# Altium schematic symbol library sensor_accel-gyro-compass.SchLib: 38 symbols
Pins are listed as number, name and electrical type; pins without a type are passive.

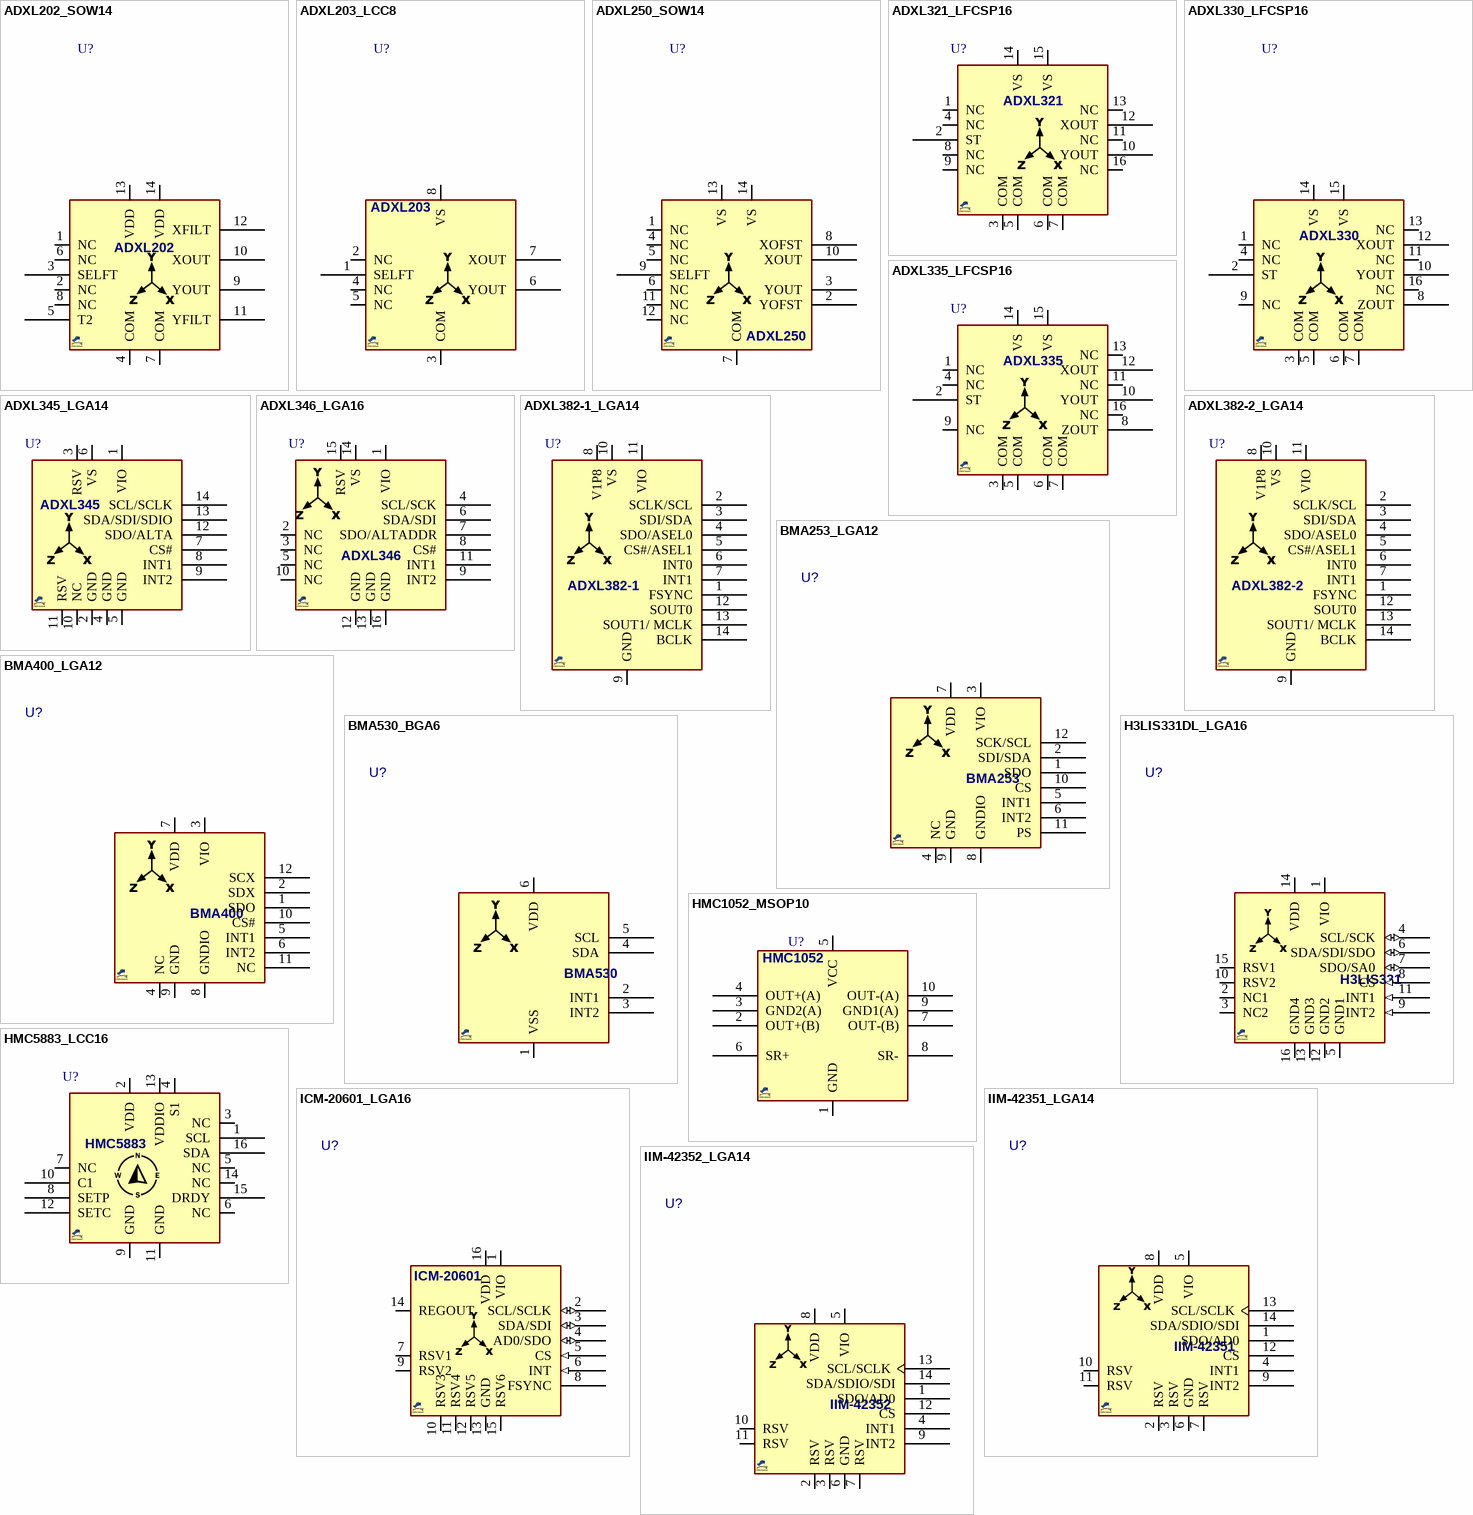
[diagram p0: symbols ADXL202_SOW14 to IIM-42352_LGA14]

## ADXL202_SOW14
designator U?, comment ADXL202  (value not drawn)
Sensor, Accelerometer, Dual Axis; MANF: Analog Devices; MANF_P#: ADXL202AQC, ADXL202JQC; PARAM2: 3~5.5VCC; PARAM: PARAM; PRICE: 16,000toman@PAYA; VALUE: ADXL202; PACKAGE: SOIC-14W
footprint SO_14_W (SOP, SOIC, 7.5mm width, 1.27mm pitch,)
pins: 1 NC, 2 NC, 3 SELFT, 4 COM, 5 T2, 6 NC, 7 COM, 8 NC, 9 YOUT, 10 XOUT, 11 YFILT, 12 XFILT, 13 VDD, 14 VDD

## ADXL203_LCC8
designator U?, comment ADXL203  (value not drawn)
Sensor, Accelerometer, Dual Axis; MANF: Analog Devices; MANF_P#: ADXL203CE; PARAM2: 3~6VCC; PARAM: PARAM; PRICE: 60,000toman@PAYA; VALUE: ADXL203; PACKAGE: 8-CLCC (5x5)
footprint QFN127_8_5X5 (E-8-1, LCC 8, ADXL103, ADXL203)
pins: 1 SELFT, 2 NC, 3 COM, 4 NC, 5 NC, 6 YOUT, 7 XOUT, 8 VS

## ADXL250_SOW14
designator U?, comment ADXL250  (value not drawn)
Sensor, Accelerometer, Dual Axis; MANF: Analog Devices; MANF_P#: ADXL250AQC; PARAM: PARAM; PRICE: 24000toman@PAYA; VALUE: ADXL250; PACKAGE: 8-CLCC (5x5)
footprint SO_14_W (SOP, SOIC, 7.5mm wide, 1.27mm pitch,)
pins: 1 NC, 2 YOFST, 3 YOUT, 4 NC, 5 NC, 6 NC, 7 COM, 8 XOFST, 9 SELFT, 10 XOUT, 11 NC, 12 NC, 13 VS, 14 VS

## ADXL321_LFCSP16
designator U?, comment ADXL321  (value not drawn)
Sensor, Accelerometer, Dual Axis, +/-18g, 3mg-resolution@50Hz; MANF: Analog Devices; MANF_P#: ADXL321JCP; PARAM2: 2.4~6VCC; PARAM: +/-18g, 3mg-resolution@50Hz; PRICE: 33000toman@PAYA; VALUE: ADXL321; PACKAGE: LFCSP-16 (4X4)
footprint QFN65_16T_4X4 (QFN, 16-Leads, Body 4.00x4.00mm, Pitch 0.65mm, ADX330)
pins: 1 NC, 2 ST, 3 COM, 4 NC, 5 COM, 6 COM, 7 COM, 8 NC, 9 NC, 10 YOUT, 11 NC, 12 XOUT, 13 NC, 14 VS, 15 VS, 16 NC

## ADXL330_LFCSP16
designator U?, comment ADXL330  (value not drawn)
Sensor, Accelerometer, 3-Axis, +/-3g; MANF: Analog Devices; MANF_P#: ADXL330K; PARAM2: 1.8~3.6VCC; PARAM: +/-3g; PRICE: 22000toman@PAYA; VALUE: ADXL330; PACKAGE: LFCSP-16 (4X4)
footprint QFN65_16T_4X4 (Footprint not found)
pins: 1 NC, 2 ST, 3 COM, 4 NC, 5 COM, 6 COM, 7 COM, 8 ZOUT, 9 NC, 10 YOUT, 11 NC, 12 XOUT, 13 NC, 14 VS, 15 VS, 16 NC

## ADXL335_LFCSP16
designator U?, comment ADXL335  (value not drawn)
Sensor, Accelerometer, 3-Axis, +/-3g; MANF: Analog Devices; PARAM2: 1.8~3.6VCC; MANF_P#: ADXL335; PARAM: +/-3g; PRICE: 8000toman@PAYA; VALUE: ADXL335; PACKAGE: LFCSP-16 (4X4)
footprint QFN65_16T_4X4 (QFN, 16-Leads, Body 4.00x4.00mm, Pitch 0.65mm, ADX330)
pins: 1 NC, 2 ST, 3 COM, 4 NC, 5 COM, 6 COM, 7 COM, 8 ZOUT, 9 NC, 10 YOUT, 11 NC, 12 XOUT, 13 NC, 14 VS, 15 VS, 16 NC

## ADXL345_LGA14
designator U?, comment ADXL345  (value not drawn)
Sensor, Accelerometer Digital, 3-Axis; MANF: Analog Devices; MANF_P#: ADXL345; PARAM: PARAM; PRICE: 12000toman@PAYA; VALUE: ADXL345; PACKAGE: LGA-14 (3X5)
footprint PQFN80_14_5X3 (QFN LGA 5.0X3.0mm, pitch: 0.8mm, ADXL345)
pins: 1 VIO, 2 GND, 3 RSV, 4 GND, 5 GND, 6 VS, 7 CS#, 8 INT1, 9 INT2, 10 NC, 11 RSV, 12 SDO/ALTA, 13 SDA/SDI/SDIO, 14 SCL/SCLK

## ADXL346_LGA16
designator U?, comment ADXL346  (value not drawn)
Sensor, Accelerometer Digital SPI/I2C Interface, 3-Axis, ±2g/±4g/±8g/±16g; MANF: Analog Devices; MANF_P#: ADXL346ACCZ; PARAM2: 1.7~2.75VCC; PARAM: ±2g/±4g/±8g/±16g; PRICE: 5000toman@PAYA; VALUE: ADXL346; PACKAGE: LGA-16 (3X3)
footprint QFN50_16_3X3 (LPCC, 16-lead, pitch: 0.5mm, 3x3mm)
pins: 1 VIO, 2 NC, 3 NC, 4 SCL/SCK, 5 NC, 6 SDA/SDI, 7 SDO/ALTADDR, 8 CS#, 9 INT2, 10 NC, 11 INT1, 12 GND, 13 GND, 14 VS, 15 RSV, 16 GND

## ADXL382-1_LGA14
designator U?, comment ADXL382  (value not drawn)
IMU, 3-Axis ACCEL, SPI, LGA; MANF: Analog Devices; MANF_P#: ADXL382-1BCCZ; PARAM2: 3-Axis Accel ±15g, ±30g, ±60g, 8kHz; PARAM: 2.25~3.6Vs, 1.6-3.6Vddio,  -40~125°C; PRICE: 20$; VALUE: ADXL382; PACKAGE: LGA-14 (3X5)
footprint PQFN50_14_3028 (CC-14-3, LGA-14, 2.9×2.8×1mm)
pins: 1 FSYNC, 2 SCLK/SCL, 3 SDI/SDA, 4 SDO/ASEL0, 5 CS#/ASEL1, 6 INT0, 7 INT1, 8 V1P8, 9 GND, 10 VS, 11 VIO, 12 SOUT0, 13 SOUT1/ MCLK, 14 BCLK
text: ADXL382-1

## ADXL382-2_LGA14
designator U?, comment ADXL382  (value not drawn)
IMU, 3-Axis ACCEL, I2C, LGA; MANF: Analog Devices; MANF_P#: ADXL382-2BCCZ; PARAM2: 3-Axis Accel ±15g, ±30g, ±60g, 8kHz; PARAM: 2.25~3.6Vs, 1.6-3.6Vddio,  -40~125°C; PRICE: 20$; VALUE: ADXL382; PACKAGE: LGA-14 (3X5)
footprint PQFN50_14_3028 (CC-14-3, LGA-14, 2.9×2.8×1mm)
pins: 1 FSYNC, 2 SCLK/SCL, 3 SDI/SDA, 4 SDO/ASEL0, 5 CS#/ASEL1, 6 INT0, 7 INT1, 8 V1P8, 9 GND, 10 VS, 11 VIO, 12 SOUT0, 13 SOUT1/ MCLK, 14 BCLK
text: ADXL382-2

## BMA253_LGA12
designator U?, comment BMA253  (value not drawn)
IMU  3-Axis ACCEL  I2C/SPI LGA; MANF: Bosch; PARAM2: 1.62~3.6Vdd, -40~85°C; PARAM: 3-Axis Accel ±16g; MANF_P#: BMA253; PRICE: 0.5$; VALUE: BMA253; PACKAGE: LGA-12 (2X2)
footprint PQFN50_12_2020 (LGA-12, 0.5mm pitch, 2x2x0.82mm)
pins: 1 SDO, 2 SDI/SDA, 3 VIO, 4 NC, 5 INT1, 6 INT2, 7 VDD, 8 GNDIO, 9 GND, 10 CS, 11 PS, 12 SCK/SCL

## BMA400_LGA12
designator U?, comment BMA400  (value not drawn)
IMU  3-Axis ACCEL  I2C/SPI LGA; MANF: Bosch; PARAM2: 1.71~3.6Vdd, -40~85°C; PARAM: 3-Axis Accel ±16g; MANF_P#: BMA400; PRICE: 2$; VALUE: BMA400; PACKAGE: LGA-12 (2X2)
footprint PQFN50_12_2020 (LGA-12, 0.5mm pitch, 2x2x0.82mm)
pins: 1 SDO, 2 SDX, 3 VIO, 4 NC, 5 INT1, 6 INT2, 7 VDD, 8 GNDIO, 9 GND, 10 CS#, 11 NC, 12 SCX

## BMA530_BGA6
designator U?, comment BMA530  (value not drawn)
IMU  3-Axis ACCEL  I2C/SPI LGA; MANF: Bosch; PARAM2: 1.62~3.6Vdd, -40~85°C; PARAM: 3-Axis Accel ±16g; MANF_P#: BMA530; PRICE: 2$; VALUE: BMA530; PACKAGE: WLCSP-6 (0.8x1.2)
footprint BGA40_6_1208 (BGA WLCSP-6, 0.40mm pitch, 1.2x0.8x0.55mm)
pins: 1 VSS, 2 INT1, 3 INT2, 4 SDA, 5 SCL, 6 VDD

## H3LIS331DL_LGA16
designator U?, comment H3LIS331DL  (value not drawn)
IMU  3-Axis ACCEL  I2C/SPI LGA; MANF: ST; PARAM2: 2.16~3.6Vdd, -40+85°C; PARAM: 3-Axis Accel ±400g; MANF_P#: H3LIS331DL; PRICE: 10$; VALUE: H3LIS331DL; PACKAGE: LGA-16 (3X3)
footprint QFN50_16R (TFLGA 3x3x1, 5+3+5+3, 3X3mm, 0.5mm pitch)
pins: 1 VIO "Power supply for I/O pins", 2 NC1 "Not connected", 3 NC2 "Not connected", 4 SCL/SCK (io) "I2C serial clock (SCL) , SPI serial port clock (SPC)", 5 GND1 "0 V supply", 6 SDA/SDI/SDO (io) "I2C serial data (SDA) , SPI serial data input (SDI) , 3-wire interface serial data output (SDO)", 7 SDO/SA0 (io) "SPI serial data output (SDO) , I2C less significant bit of the device address (SA0)", 8 CS (in) "SPI enable , I2C/SPI mode selection (1: I2C mode; 0: SPI enabled)", 9 INT2 (in) "Inertial interrupt 2", 10 RSV2 "Connect to GND", 11 INT1 (in) "Inertial interrupt 1", 12 GND2 "0 V supply", 13 GND3 "0 V supply", 14 VDD, 15 RSV1 "Connect to Vdd", 16 GND4 "0 V supply"
text: H3LIS331

## HMC1052_MSOP10
designator U?, comment HMC1052  (value not drawn)
SENSOR,  MAGNETIC, 3-AXIS; MANF: Honeywell; MANF_P#: HMC1052; PARAM: PARAM; VALUE: HMC1052; PACKAGE: MSOP-10
footprint SOG50_10
pins: 1 GND, 2 OUT+(B), 3 GND2(A), 4 OUT+(A), 5 VCC, 6 SR+, 7 OUT-(B), 8 SR-, 9 GND1(A), 10 OUT-(A)

## HMC5883_LCC16
designator U?, comment HMC5883  (value not drawn)
Sensor, Compass, I2C interface; MANF: Honeywell; MANF_P#: HMC5883; PARAM: PARAM; VALUE: HMC5883; PACKAGE: LCC-16 (3X3)
footprint QFN50_16_3X3 (LPCC, 16-lead, pitch: 0.5mm, 3x3mm)
pins: 1 SCL, 2 VDD, 3 NC, 4 S1, 5 NC, 6 NC, 7 NC, 8 SETP, 9 GND, 10 C1, 11 GND, 12 SETC, 13 VDDIO, 14 NC, 15 DRDY, 16 SDA

## ICM-20601_LGA16
designator U?, comment ICM-20601  (value not drawn)
IMU  6-Axis ACCEL/GYRO/TEMP I2C/SPI LGA; MANF: InvenSense TDK; PARAM2: 1.7~3.45Vdd, -40+85°C; PARAM: 3-Axis Gyro  ±4000dps, 3-Axis Accel ±32g; MANF_P#: ICM-20601; PRICE: 9$; VALUE: ICM-20601; PACKAGE: 16-LGA (3x3)
footprint QFN50_16R (MMA8451Q (FREESCALE) 5+3+5+3, 3X3mm, 0.5mm)
pins: 1 VIO "Digital I/O supply voltage", 2 SCL/SCLK (io) "I2C serial clock (SCL); SPI serial clock (SCLK)", 3 SDA/SDI (io) "I2C serial data (SDA); SPI serial data input (SDI)", 4 AD0/SDO (io) "I2C slave address LSB (AD0); SPI serial data output (SDO)", 5 CS (in) "Chip select (0 = SPI mode; 1 = I2C mode)", 6 INT (in) "Interrupt digital output (totem pole or open-drain)", 7 RSV1 "Reserved. Do not connect.", 8 FSYNC "Synchronization digital input (optional). Connect to GND if", 9 RSV2 "Reserved. Connect to GND.", 10 RSV3 "Reserved. Connect to GND.", 11 RSV4 "Reserved. Connect to GND.", 12 RSV5 "Reserved. Connect to GND.", 13 GND "Connect to GND", 14 REGOUT "Regulator filter capacitor connection", 15 RSV6 "Reserved. Connect to GND.", 16 VDD "Power Supply"

## IIM-42351_LGA14
designator U?, comment IIM-42351  (value not drawn)
IMU  3-Axis ACCEL  I2C/SPI LGA; MANF: TDK; PARAM2: 1.7~3.6Vdd, -40~105°C; PARAM: 3-Axis Accel ±16g. dc~4kHz; MANF_P#: IIM-42351; PRICE: 2.5$; VALUE: IIM-42351; PACKAGE: LGA-14 (2.5X3)
footprint PQFN50_14_2530 (LGA-14, 0.5mm pitch, 2.5x3x0.86mm)
pins: 1 SDO/AD0, 2 RSV, 3 RSV, 4 INT1, 5 VIO, 6 GND, 7 RSV, 8 VDD, 9 INT2, 10 RSV, 11 RSV, 12 CS, 13 SCL/SCLK, 14 SDA/SDIO/SDI

## IIM-42352_LGA14
designator U?, comment IIM-42352  (value not drawn)
IMU  3-Axis ACCEL  I2C/SPI LGA; MANF: TDK; PARAM2: 1.7~3.6Vdd, -40~105°C; PARAM: 3-Axis Accel ±16g. dc~4kHz; MANF_P#: IIM-42352; PRICE: 2.5$; VALUE: IIM-42352; PACKAGE: LGA-14 (2.5X3)
footprint PQFN50_14_2530 (LGA-14, 0.5mm pitch, 2.5x3x0.86mm)
pins: 1 SDO/AD0, 2 RSV, 3 RSV, 4 INT1, 5 VIO, 6 GND, 7 RSV, 8 VDD, 9 INT2, 10 RSV, 11 RSV, 12 CS, 13 SCL/SCLK, 14 SDA/SDIO/SDI

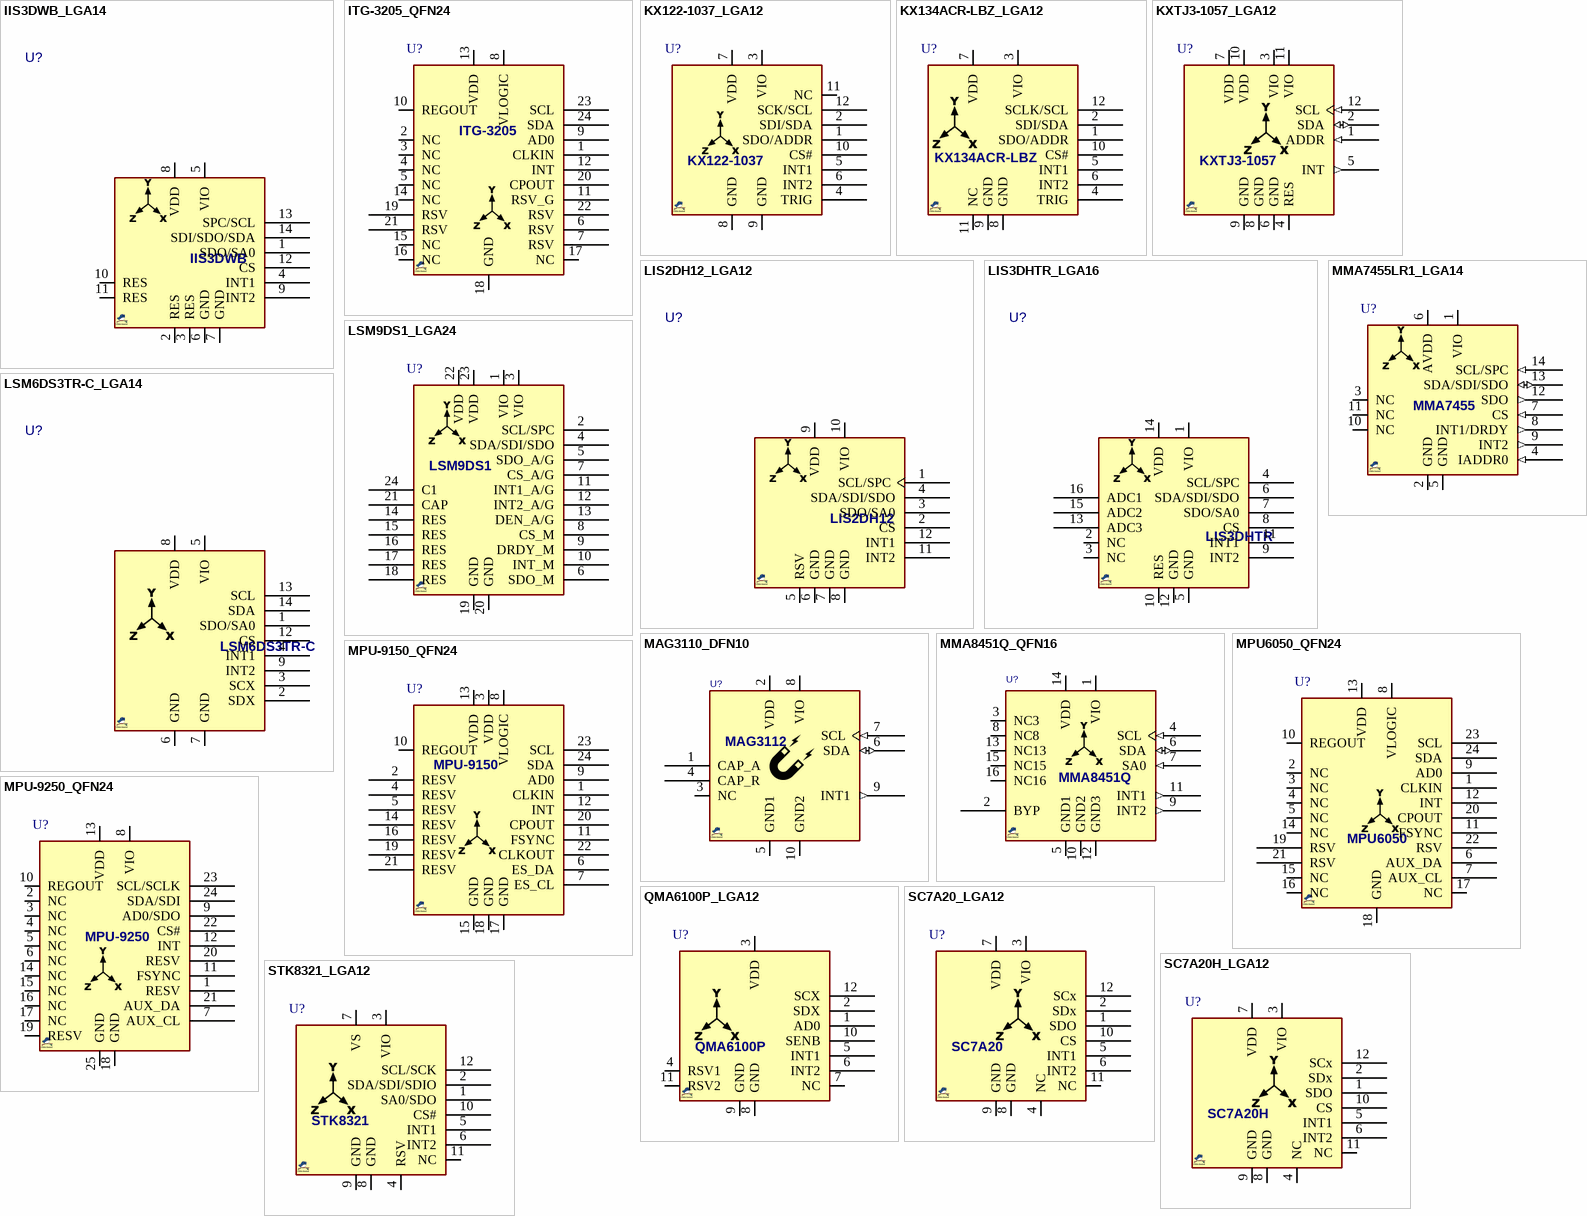
[diagram p1: symbols IIS3DWB_LGA14 to STK8321_LGA12]

## IIS3DWB_LGA14
designator U?, comment IIS3DWB  (value not drawn)
IMU  3-Axis ACCEL  I2C/SPI LGA; MANF: ST; PARAM2: 2.1~3.6Vdd, -40~105°C; PARAM: 3-Axis Accel ±16g, dc~6kHz; MANF_P#: IIS3DWB; PRICE: 20$; VALUE: IIS3DWB; PACKAGE: LGA-16 (3X3)
footprint PQFN50_14_2530 (LGA-14, 0.5mm pitch, 2.5x3x0.86mm)
pins: 1 SDO/SA0, 2 RES, 3 RES, 4 INT1, 5 VIO, 6 GND, 7 GND, 8 VDD, 9 INT2, 10 RES, 11 RES, 12 CS, 13 SPC/SCL, 14 SDI/SDO/SDA

## ITG-3205_QFN24
designator U?, comment ITG-3205  (value not drawn)
Sensor, 3-Axis GyroSensor; MANF: InvenSense; MANF_P#: ITG-3205; PARAM: PARAM; VALUE: ITG-3205; PACKAGE: QFN-24 (4X4)
footprint QFN50_24T (RTW, RGE S-PQFP-N24 (TI), HVQFN24, 4X4mm, 0.5mm, MO-220 (JEDEC))
pins: 1 CLKIN, 2 NC, 3 NC, 4 NC, 5 NC, 6 RSV, 7 RSV, 8 VLOGIC, 9 AD0, 10 REGOUT, 11 RSV_G, 12 INT, 13 VDD, 14 NC, 15 NC, 16 NC, 17 NC, 18 GND, 19 RSV, 20 CPOUT, 21 RSV, 22 RSV, 23 SCL, 24 SDA

## KX122-1037_LGA12
designator U?, comment KX122-1037  (value not drawn)
Sensor, Accelerometer Digital, SPI/I2C, ±2g/4g/8g Tri-axis; PARAM2: 1.7~3.6Vcc; MANF: Kionix; MANF_P#: KX122-1037-FR; PARAM: ±2g/4g/8g; PRICE: 2$; Value: KX122-1037; PACKAGE: LGA-12
footprint PQFN50_12_2020 (LGA-12, 0.5mm pitch, 2x2x0.82mm)
pins: 1 SDO/ADDR "No internal connection. Leave  unconnected or connect to Ground", 2 SDI/SDA "No internal connection. Leave  unconnected or connect to Ground", 3 VIO "I2C Address Bit 0", 4 TRIG "Interrupt 1/ Data Ready", 5 INT1 "I2C Serial Clock (SCL), SPI Serial  Clock (SPC)", 6 INT2 "No internal connection. Leave  unconnected or connect to Ground", 7 VDD "I2C Serial Data (SDA), SPI Serial  Data Input (SDI), 3-wire interface  Serial Data Output (SDO)", 8 GND "SPI Enable (0), I2C Enable (1)", 9 GND "SPI Serial Data Output", 10 CS# "Analog Power", 11 NC "Interrupt 2", 12 SCK/SCL "Digital Power for I/O pads"

## KX134ACR-LBZ_LGA12
designator U?, comment KX134ACR-LBZ  (value not drawn)
Sensor, Accelerometer Digital, I2C, up to ±64g Tri-axis; PARAM2: 1.7~3.6Vcc; MANF: Kionix Rohm; MANF_P#: KX134ACR-LBZE2; PARAM: up to ±64g; PRICE: 10$; PACKAGE: LGA-12; Value: KX134ACR-LBZ
footprint PQFN50_12_2020 (LGA-12, 0.5mm pitch, 2x2x0.82mm)
pins: 1 SDO/ADDR, 2 SDI/SDA, 3 VIO, 4 TRIG, 5 INT1, 6 INT2, 7 VDD, 8 GND, 9 GND, 10 CS#, 11 NC, 12 SCLK/SCL

## KXTJ3-1057_LGA12
designator U?, comment KXTJ3-1057  (value not drawn)
Sensor, Accelerometer Digital, I2C, ±2g/4g/8g/16g Tri-axis; PARAM2: 1.7~3.6Vcc; MANF: Kionix; MANF_P#: KX122-1037-FR; PARAM: ±2g/4g/8g/16g; PRICE: 1000 : 0.7$; PACKAGE: LGA-12; Value: KXTJ3-1057
footprint PQFN50_12_2020 (LGA-12, 0.5mm pitch, 2x2x0.82mm)
pins: 1 ADDR (in), 2 SDA (io), 3 VIO (power), 4 RES, 5 INT (out), 6 GND (power), 7 VDD (power), 8 GND (power), 9 GND (power), 10 VDD (power), 11 VIO (power), 12 SCL (in)

## LIS2DH12_LGA12
designator U?, comment LIS2DH12  (value not drawn)
IMU  3-Axis ACCEL  I2C/SPI LGA; MANF: ST; PARAM2: 1.7~3.6Vdd, -40~85°C; PARAM: 3-Axis Accel ±16g; MANF_P#: LIS2DH12; PRICE: 0.5$; VALUE: LIS2DH12; PACKAGE: LGA-12 (2X2)
footprint PQFN50_12_2020 (LGA-12, 0.5mm pitch, 2x2x0.82mm)
pins: 1 SCL/SPC, 2 CS, 3 SDO/SA0, 4 SDA/SDI/SDO, 5 RSV, 6 GND, 7 GND, 8 GND, 9 VDD, 10 VIO, 11 INT2, 12 INT1

## LIS3DHTR_LGA16
designator U?, comment LIS3DHTR  (value not drawn)
IMU  3-Axis ACCEL  I2C/SPI LGA; MANF: ST; PARAM2: 1.7~3.6Vdd, -40~85°C; PARAM: 3-Axis Accel ±16g; MANF_P#: LIS3DHTR; PRICE: 0.5$; VALUE: LIS3DHTR; PACKAGE: LGA-16 (3X3)
footprint PQFN50_16_3030 (LGA-16, 0.5mm pitch, 3x3x1mm)
pins: 1 VIO, 2 NC, 3 NC, 4 SCL/SPC, 5 GND, 6 SDA/SDI/SDO, 7 SDO/SA0, 8 CS, 9 INT2, 10 RES, 11 INT1, 12 GND, 13 ADC3, 14 VDD, 15 ADC2, 16 ADC1

## LSM6DS3TR-C_LGA14
designator U?, comment LSM6DS3TR-C  (value not drawn)
IMU  3-Axis ACCEL  I2C/SPI LGA; MANF: ST; PARAM2: 1.7~3.6Vdd, -40~85°C; PARAM: 3-Axis Accel ±16g; MANF_P#: LSM6DS3TR-C; PRICE: 1$; VALUE: LSM6DS3TR-C; PACKAGE: LGA-14 (2.5X3)
footprint PQFN50_14_2530 (LGA-14, 0.5mm pitch, 2.5x3x0.86mm)
pins: 1 SDO/SA0, 2 SDX, 3 SCX, 4 INT1, 5 VIO, 6 GND, 7 GND, 8 VDD, 9 INT2, 12 CS, 13 SCL, 14 SDA

## LSM9DS1_LGA24
designator U?, comment LSM9DS1  (value not drawn)
IMU Accelerometer 3-Axis & Gyro; MANF: ST; PARAM2: 1.9~3.6Vcc, -40~85°C; PARAM: 3-Axis Accel ±16g; MANF_P#: LSM9DS1; VALUE: LSM9DS1; PACKAGE: LGA-24 (3.5X3.5)
footprint PQFN43_24_3535 (LGA (3.5x3x1 mm) 24-lead, LSM9DS1 gyro)
pins: 1 VIO, 2 SCL/SPC, 3 VIO, 4 SDA/SDI/SDO, 5 SDO_A/G, 6 SDO_M, 7 CS_A/G, 8 CS_M, 9 DRDY_M, 10 INT_M, 11 INT1_A/G, 12 INT2_A/G, 13 DEN_A/G, 14 RES, 15 RES, 16 RES, 17 RES, 18 RES, 19 GND, 20 GND, 21 CAP, 22 VDD, 23 VDD, 24 C1

## MAG3110_DFN10
designator U?, comment MAG3112  (value not drawn)
Sensor, MAGNETOMETER, 3-AXIS, DIGITAL 1.95-3.6V DFN10; MANF_P#: MAG3110; MANF: FREESCALE SEMICONDUCTOR; PARAM: PARAM; VALUE: MAG3112; PACKAGE: DFN-10
footprint SON40_10_2X2 (DFN pitch:2mm 2X2X0.85mm)
pins: 1 CAP_A, 2 VDD (power), 3 NC, 4 CAP_R, 5 GND1 (power), 6 SDA (io), 7 SCL (in), 8 VIO (power), 9 INT1 (out), 10 GND2 (power)

## MMA7455LR1_LGA14
designator U?, comment MMA7455  (value not drawn)
Sensor, Accelerometer Digital, ±2g/±4g/±8g Three Axis Low-g; PARAM2: 2.4V to 3.6V; PARAM: PARAM; Value: MMA7455; PACKAGE: LGA-14
footprint QFN80_14_5X3 (LGA_CC-14-1 ADXL345)
pins: 1 VIO (power) "Digital Power for I/O pads", 2 GND (power) "Ground", 3 NC "No internal connection. Leave  unconnected or connect to Ground", 4 IADDR0 (in) "I2C Address Bit 0", 5 GND (power) "Ground", 6 AVDD (power) "Analog Power", 7 CS (in) "SPI Enable (0), I2C Enable (1)", 8 INT1/DRDY (out) "Interrupt 1/ Data Ready", 9 INT2 (out) "Interrupt 2", 10 NC "No internal connection. Leave  unconnected or connect to Ground", 11 NC "No internal connection. Leave  unconnected or connect to Ground", 12 SDO (out) "SPI Serial Data Output", 13 SDA/SDI/SDO (io) "I2C Serial Data (SDA), SPI Serial  Data Input (SDI), 3-wire interface  Serial Data Output (SDO)", 14 SCL/SPC (in) "I2C Serial Clock (SCL), SPI Serial  Clock (SPC)"

## MMA8451Q_QFN16
designator U?, comment MMA8451Q  (value not drawn)
Sensor, ACCELEROMETER, 3-AXIS DIG 14/8BIT 1.95-3.6V QFN16; MANF_P#: MMA8451QT; MANF: FREESCALE SEMICONDUCTOR; PARAM: PARAM; VALUE: MMA8451Q; PACKAGE: QFN-16
footprint QFN50_16R (MMA8451Q (FREESCALE) 5+3+5+3, 3X3mm, 0.5mm)
pins: 1 VIO (power), 2 BYP, 3 NC3, 4 SCL (in), 5 GND1 (power), 6 SDA (io), 7 SA0 (in), 8 NC8, 9 INT2 (out), 10 GND2 (power), 11 INT1 (out), 12 GND3 (power), 13 NC13, 14 VDD (power), 15 NC15, 16 NC16

## MPU6050_QFN24
designator U?, comment MPU6050  (value not drawn)
IMU Accelerometer 3-Axis & Gyro; MANF: InvenSense; MANF_P#: MPU6050; PARAM: PARAM; VALUE: MPU6050; PACKAGE: QFN-24 (4X4)
footprint QFN50_24T (MO-220 (JEDEC), RGE S-PQFP-N24 (TI), 4X4mm, 0.5mm, HVQFN24)
pins: 1 CLKIN, 2 NC, 3 NC, 4 NC, 5 NC, 6 AUX_DA, 7 AUX_CL, 8 VLOGIC, 9 AD0, 10 REGOUT, 11 FSYNC, 12 INT, 13 VDD, 14 NC, 15 NC, 16 NC, 17 NC, 18 GND, 19 RSV, 20 CPOUT, 21 RSV, 22 RSV, 23 SCL, 24 SDA

## MPU-9150_QFN24
designator U?, comment MPU-9150  (value not drawn)
IMU ACCEL/GYRO/MAG I2C 24LGA; MANF: InvenSense; PRICE: 10$; MANF_P#: MPU-9150; PARAM: PARAM; VALUE: MPU-9150; PACKAGE: QFN-24 (4X4)
footprint QFN50_24T (MO-220 (JEDEC), RGE S-PQFP-N24 (TI), 4X4mm, 0.5mm, HVQFN24)
pins: 1 CLKIN, 2 RESV, 3 VDD, 4 RESV, 5 RESV, 6 ES_DA, 7 ES_CL, 8 VLOGIC, 9 AD0, 10 REGOUT, 11 FSYNC, 12 INT, 13 VDD, 14 RESV, 15 GND, 16 RESV, 17 GND, 18 GND, 19 RESV, 20 CPOUT, 21 RESV, 22 CLKOUT, 23 SCL, 24 SDA

## MPU-9250_QFN24
designator U?, comment MPU-9250  (value not drawn)
IMU ACCEL/GYRO/MAG I2C 24LGA; MANF: InvenSense; PRICE: 10$; MANF_P#: MPU-9250; PARAM: PARAM; VALUE: MPU-9250; PACKAGE: QFN-24 (3.5X3.5)
footprint QFN40_24T (QFN, 24-Leads, Body 3.5x3.5mm, Pitch 0.40mm)
pins: 1 RESV, 2 NC, 3 NC, 4 NC, 5 NC, 6 NC, 7 AUX_CL, 8 VIO, 9 AD0/SDO, 10 REGOUT, 11 FSYNC, 12 INT, 13 VDD, 14 NC, 15 NC, 16 NC, 17 NC, 18 GND, 19 RESV, 20 RESV, 21 AUX_DA, 22 CS#, 23 SCL/SCLK, 24 SDA/SDI, 25 GND

## QMA6100P_LGA12
designator U?, comment QMA6100P  (value not drawn)
Sensor, Accelerometer Digital, I2C, up to ±32g Tri-axis; PARAM2: 1.7V to 3.6V; MANF: QST; PARAM: up to ±32g, -40~85°C; MANF_P#: QMA6100P; PRICE: 0.5$; PACKAGE: LGA-12; Value: QMA6100P
footprint PQFN50_12_2020 (LGA-12, 0.5mm pitch, 2x2x0.82mm)
pins: 1 AD0, 2 SDX, 3 VDD, 4 RSV1, 5 INT1, 6 INT2, 7 NC, 8 GND, 9 GND, 10 SENB, 11 RSV2, 12 SCX

## SC7A20_LGA12
designator U?, comment SC7A20  (value not drawn)
Sensor, Accelerometer Digital, I2C, up to ±16g Tri-axis; PARAM2: 1.7~3.6Vcc, -40~85°C; MANF: Silan; MANF_P#: SC7A20TR; PARAM: up to ±16g; PRICE: 0.4$; PACKAGE: LGA-12; Value: SC7A20
footprint PQFN50_12_2020 (LGA-12, 0.5mm pitch, 2x2x0.82mm)
pins: 1 SDO, 2 SDx, 3 VIO, 4 NC, 5 INT1, 6 INT2, 7 VDD, 8 GND, 9 GND, 10 CS, 11 NC, 12 SCx

## SC7A20H_LGA12
designator U?, comment SC7A20H  (value not drawn)
Sensor, Accelerometer Digital, I2C, up to ±16g Tri-axis; PARAM2: 1.7~3.6Vcc, -40~85°C; MANF: Silan; MANF_P#: SC7A20HTR; PARAM: up to ±16g; PRICE: 0.3$; PACKAGE: LGA-12; Value: SC7A20H
footprint PQFN50_12_2020 (LGA-12, 0.5mm pitch, 2x2x0.82mm)
pins: 1 SDO, 2 SDx, 3 VIO, 4 NC, 5 INT1, 6 INT2, 7 VDD, 8 GND, 9 GND, 10 CS, 11 NC, 12 SCx

## STK8321_LGA12
designator U?, comment STK8321  (value not drawn)
Sensor, Accelerometer Digital, I2C, up to ±8g Tri-axis; PARAM2: 1.7~3.6Vcc, -40~85°C; MANF: SENSORTEK; PARAM: up to ±8g; MANF_P#: STK8321; PRICE: 0.4$; PACKAGE: LGA-12; Value: STK8321
footprint PQFN50_12_2020 (LGA-12, 0.5mm pitch, 2x2x0.82mm)
pins: 1 SA0/SDO, 2 SDA/SDI/SDIO, 3 VIO, 4 RSV, 5 INT1, 6 INT2, 7 VS, 8 GND, 9 GND, 10 CS#, 11 NC, 12 SCL/SCK